# EAGLE library part MPU-9250DEV (library GFE)
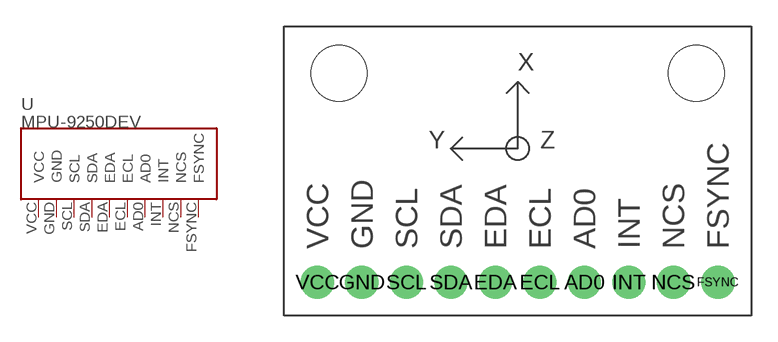
[diagram p10: symbol with the pads of MPU-9250; footprint MPU-9250]

Designator prefix U

## MPU-9250DEV  [MPU-9250]
AD0  AD0
ECL  ECL
EDA  EDA
FSYNC  FSYNC
GND  GND
INT  INT
NCS  NCS
SCL  SCL
SDA  SDA
VCC  VCC

## Footprint MPU-9250 (pad centres in mm)
drill 1.016 pad 1.905: AD0 3.81,1.27; ECL 1.27,1.27; EDA -1.27,1.27; FSYNC 11.43,1.27; GND -8.89,1.27; INT 6.35,1.27; NCS 8.89,1.27; SCL -6.35,1.27; SDA -3.81,1.27; VCC -11.43,1.27
hole 3.2 at 10.2,13.2
hole 3.2 at -10.2,13.2